# EAGLE library part INA219 (library Underwater-Camera-v2.0)
INA219 - TI - Current and Voltage sensing amplifier with I2C output
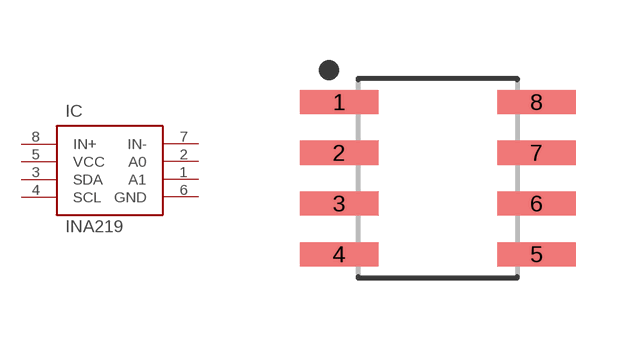
[diagram p8: symbol with the pads of SOIC127P599X175-8; footprint SOIC127P599X175-8]

Designator prefix IC

## INA219SOIC8  [SOIC127P599X175-8]
1  A1
2  A0
3  SDA
4  SCL
5  VCC
6  GND
7  IN-
8  IN+

## Footprint SOIC127P599X175-8 (pad centres in mm)
8-SOIC, 1.27 mm pitch, 6.00 mm span, 4.91 X 3.90 X 1.75 mm body 8-pin SOIC package with 1.27 mm pitch, 6.00 mm span with body size 4.91 X 3.90 X 1.75 mm
smd 1.965 x 0.602: 1 -2.47,1.905; 2 -2.47,0.635; 3 -2.47,-0.635; 4 -2.47,-1.905; 5 2.47,-1.905; 6 2.47,-0.635; 7 2.47,0.635; 8 2.47,1.905